# EAGLE library part SANGUINOLOLU_IO_HEADERS_SCREW (library SAVLibSAV MK-I)
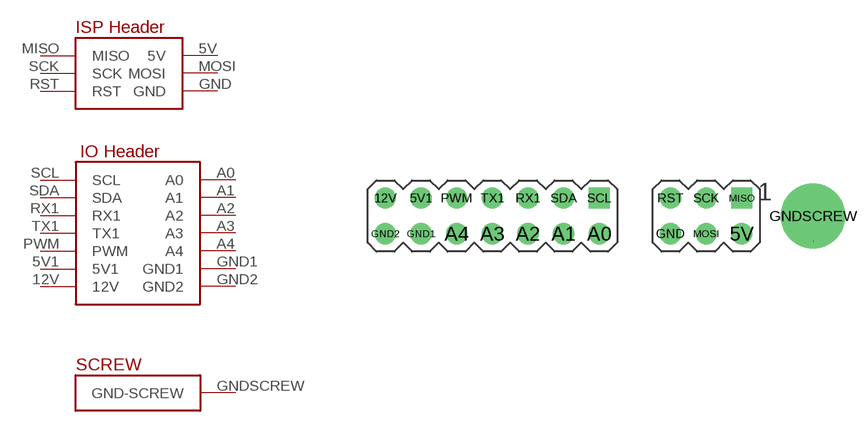
[diagram p2: symbol with the pads of SANGUINOLOLU_IO_HEADER-PLATEDSCREW; footprint SANGUINOLOLU_IO_HEADER-PLATEDSCREW]

Designator prefix -; gates G$1=SANGUINOLOLU_IO_HEADER G$2=SANGUINOLOLU_ISPHEADER G$3=SANGUINOLOLU_SCREW

## SANGUINOLOLU_IO_HEADERS_SCREW  [SANGUINOLOLU_IO_HEADER-PLATEDSCREW]
5V  G$2:5V
5V1  G$1:5V1
12V  G$1:12V
A0  G$1:A0
A1  G$1:A1
A2  G$1:A2
A3  G$1:A3
A4  G$1:A4
GND  G$2:GND
GND1  G$1:GND1
GND2  G$1:GND2
GNDSCREW  G$3:GND-SCREW
MISO  G$2:MISO
MOSI  G$2:MOSI
PWM  G$1:PWM
RST  G$2:RST
RX1  G$1:RX1
SCK  G$2:SCK
SCL  G$1:SCL
SDA  G$1:SDA
TX1  G$1:TX1

## Footprint SANGUINOLOLU_IO_HEADER-PLATEDSCREW (pad centres in mm)
drill 1: 5V -5.08,-1.27; 5V1 -27.94,1.27; 12V -30.48,1.27; A0 -15.24,-1.27; A1 -17.78,-1.27; A2 -20.32,-1.27; A3 -22.86,-1.27; A4 -25.4,-1.27; GND -10.16,-1.27; GND1 -27.94,-1.27; GND2 -30.48,-1.27; MOSI -7.62,-1.27; PWM -25.4,1.27; RST -10.16,1.27; RX1 -20.32,1.27; SCK -7.62,1.27; SDA -17.78,1.27; TX1 -22.86,1.27
drill 3.6: GNDSCREW 0,0
drill 1 square: MISO -5.08,1.27; SCL -15.24,1.27